# EAGLE library part HEADER_10P (library esp8266-3cell)
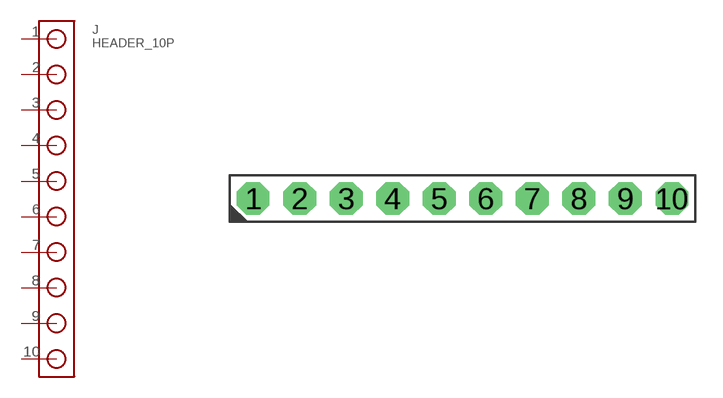
[diagram p1: symbol with the pads of HEADER_10P; footprint HEADER_10P]

Designator prefix J

## HEADER_10P  [HEADER_10P]
1  1
2  2
3  3
4  4
5  5
6  6
7  7
8  8
9  9
10  10

## Footprint HEADER_10P (pad centres in mm)
drill 1 pad 1.778 octagon: 1 -11.43,0; 2 -8.89,0; 3 -6.35,0; 4 -3.81,0; 5 -1.27,0; 6 1.27,0; 7 3.81,0; 8 6.35,0; 9 8.89,0; 10 11.43,0